# Altium schematic symbol library PushButton_Series_SCH_Library_ARAF.SchLib: 1 symbol
Pins are listed as number, name and electrical type; pins without a type are passive.

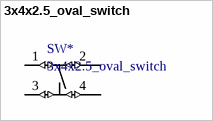
[diagram p0: symbol 3x4x2.5_oval_switch]

## 3x4x2.5_oval_switch
designator SW*
footprint 3x4x2.5_oval_button_footprint
pins: 1 (io), 2 (io), 3 (io), 4 (io)